# EAGLE library part NJM13700 (library !synthdiy)
NJR Dual OTA with buffers.
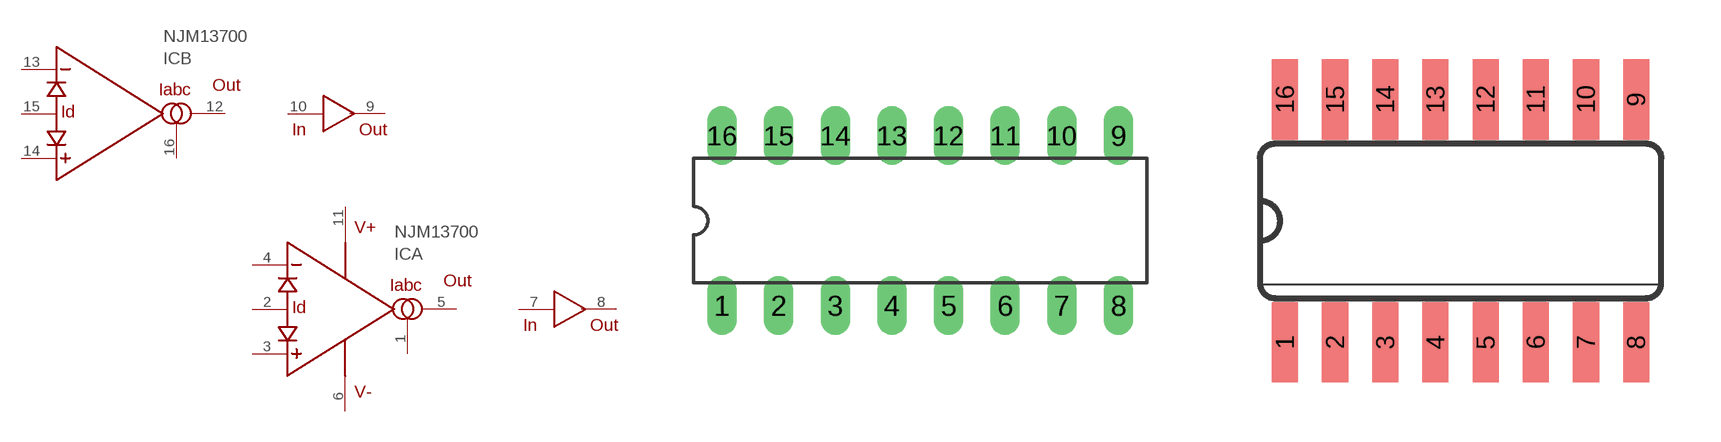
[diagram p4: symbol with the pads of DIL16; footprints DIL16, SO16]

Designator prefix IC; gates A=OTA_WD_N B=OTA_WD_N G$3=OTA_BUF G$4=OTA_BUF G$5=OTA_WD_PWR

## NJM13700N  [DIL16]
1  A:IABC
2  A:ID
3  A:+IN
4  A:-IN
5  A:OUT
6  G$5:V-
7  G$3:IN
8  G$3:OUT
9  G$4:OUT
10  G$4:IN
11  G$5:V+
12  B:OUT
13  B:-IN
14  B:+IN
15  B:ID
16  B:IABC

## NJM13700M  [SO16]
Pads as for DIL16

## Footprint DIL16 (pad centres in mm)
Dual In Line 16
drill 0.813 long: 1 -8.89,-3.81; 2 -6.35,-3.81; 3 -3.81,-3.81; 4 -1.27,-3.81; 5 1.27,-3.81; 6 3.81,-3.81; 7 6.35,-3.81; 8 8.89,-3.81; 9 8.89,3.81; 10 6.35,3.81; 11 3.81,3.81; 12 1.27,3.81; 13 -1.27,3.81; 14 -3.81,3.81; 15 -6.35,3.81; 16 -8.89,3.81

## Footprint SO16 (pad centres in mm)
Small Outline Package 16
smd 0.66 x 2.032: 1 -4.445,-3.073; 2 -3.175,-3.073; 3 -1.905,-3.073; 4 -0.635,-3.073; 5 0.635,-3.073; 6 1.905,-3.073; 7 3.175,-3.073; 8 4.445,-3.073; 9 4.445,3.073; 10 3.175,3.073; 11 1.905,3.073; 12 0.635,3.073; 13 -0.635,3.073; 14 -1.905,3.073; 15 -3.175,3.073; 16 -4.445,3.073